# Altium schematic symbol library BTS3256D.SchLib: 1 symbol
Pins are listed as number, name and electrical type; pins without a type are passive.

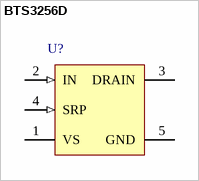
[diagram p0: symbol BTS3256D]

## BTS3256D
designator U?
HITFET 10 mOhm Smart Power Single Channel Low Side Switch with Restart and Variable Slew Rate, 40 V VDS, ID, -40 to 150 degC, PG-TO252-5-1, Reel, Green; Manufacturer: Infineon; PartNumber: BTS3256D; Channels: 1; Green: TRUE; ID(nom): 7.5 A; ID(lim) (min): 42 A; ISC (max): 30 A; RDS (on)(max): 10 mOhm; ton (max): 22 us; toff (max): 24 us; VDS (max): 40 V; DatasheetVersion: Rev. 1.0; PackageReference: PG-TO252-5-1; PackageDescription: 5-Pin Plastic (Green) Transistor Single Outline Package, 6.5 x 6.12 mm Body, 1.14 mm Pitch; Supplier 1: Digi-Key; Supplier Part Number 1: BTS3256D-ND; Supplier 2: Mouser; Supplier Part Number 2: 726-BTS3256D; Group: HITFET; Halogen-free: TRUE; Packing: Reel; Mounting Technology: Surface Mount; ComponentLink1Description: Manufacturer URL; ComponentLink1URL: http://www.infineon.com/; ComponentLink2Description: Datasheet; ComponentLink2URL: http://www.infineon.com/dgdl/BTS3256_DS_10.pdf?folderId=db3a3043163797a6011667aa084c0e01&fileId=db3a304320d39d590121a175cad77b78&location=en.Products.Automotive_ICs.Smart_High-_and_Low-Side_Switches.HITFET___TEMPFET__-_Smart_Low-Side_Switches.DATASHEET.BTS3256_DS_10.pdf; ComponentLink3Description: Package Specification; ComponentLink3URL: http://www.infineon.com/cms/packages/SMD_-_Surface_Mounted_Devices/P-PG-TO252/P-PG-TO252-05-001.html?__locale=en
footprint INF-PG-TO252-5-1_N (DPAK, 5-Leads, Body 6.5x6.12mm, Pitch 1.14mm, IPC Medium Density)
footprint INF-PG-TO252-5-1_L (DPAK, 5-Leads, Body 6.5x6.12mm, Pitch 1.14mm, IPC High Density)
footprint INF-PG-TO252-5-1_M (DPAK, 5-Leads, Body 6.5x6.12mm, Pitch 1.14mm, IPC Low Density)
pins: 1 VS (power) "Supply Voltage; Connected to Battery Voltage with Reverse protection Diode and Filter against EMC", 2 IN (in) "Control Input and Status Feedback; Digital input 3.3 V or 5 V logic.", 3 DRAIN (power) "Drain output; Protected low side power output channel, usually connected via load to battery", 4 SRP (in) "Slew Rate Preset; Used to de?ne slew rate, see Chapter 7.2 for details", 5 GND (power) "Ground; Power ground, pin connection needs to carry the load current from Drain"